# EAGLE library part RC13-BLDC-DRIVER (library rc13-bldc-driver)
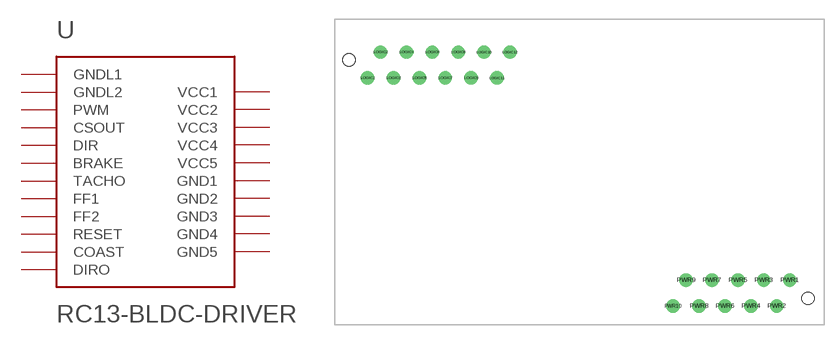
[diagram p0: symbol with the pads of RC13-BLDC-DRIVER; footprint RC13-BLDC-DRIVER]

Designator prefix -

## RC13-BLDC-DRIVER  [RC13-BLDC-DRIVER]
LOGIC1  GNDL1  pwr
LOGIC2  GNDL2  pwr
LOGIC3  PWM  in
LOGIC4  CSOUT  out
LOGIC5  DIR  in
LOGIC6  BRAKE  in
LOGIC7  TACHO  out
LOGIC8  FF1  out
LOGIC9  FF2  out
LOGIC10  RESET  in
LOGIC11  COAST  in
LOGIC12  DIRO  out
PWR1  VCC1  pwr
PWR2  VCC2  pwr
PWR3  VCC3  pwr
PWR4  VCC4  pwr
PWR5  VCC5  pwr
PWR6  GND1  pwr
PWR7  GND2  pwr
PWR8  GND3  pwr
PWR9  GND4  pwr
PWR10  GND5  pwr

## Footprint RC13-BLDC-DRIVER (pad centres in mm)
drill 0.8 pad 1.3: LOGIC1 3.215,24.23; LOGIC2 4.485,26.77; LOGIC3 5.755,24.23; LOGIC4 7.025,26.77; LOGIC5 8.295,24.23; LOGIC6 9.565,26.77; LOGIC7 10.835,24.23; LOGIC8 12.105,26.77; LOGIC9 13.375,24.23; LOGIC10 14.645,26.77; LOGIC11 15.915,24.23; LOGIC12 17.185,26.77; PWR1 44.615,4.37; PWR2 43.345,1.83; PWR3 42.075,4.37; PWR4 40.805,1.83; PWR5 39.535,4.37; PWR6 38.265,1.83; PWR7 36.995,4.37; PWR8 35.725,1.83; PWR9 34.455,4.37; PWR10 33.185,1.83
hole 1.2 at 1.4,26
hole 1.2 at 46.4,2.6